# Altium integrated library 35RASMT2BHNTRX.IntLib: 1 symbol
Pins are listed as number, name and electrical type; pins without a type are passive.

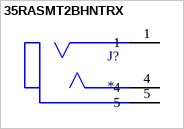
[diagram p0: symbol 35RASMT2BHNTRX]

## 35RASMT2BHNTRX
designator J?
Phone Audio Connector - 3 Contacts - Jack - Surface Mount - Gold Plated Contacts - Thermoplastic Body.; MF: Huber + Suhner AG; MP: 35RASMT2BHNTRX; SnapEDA_Link: https://www.snapeda.com/parts/35RASMT2BHNTRX/Huber/view-part/?ref=snap; Package: None; Value: *; Check_prices: https://www.snapeda.com/parts/35RASMT2BHNTRX/Huber/view-part/?ref=eda
footprint SWITCHCRAFT_35RASMT2BHNTRX
pins: 1, 4, 5